# EAGLE library part IRF7309 (library CaliBeta-Transistores)
MOSFET dual canal N 30V,3.5A,50mOhms y canal P -30V,-2.8A,0.1Ohms
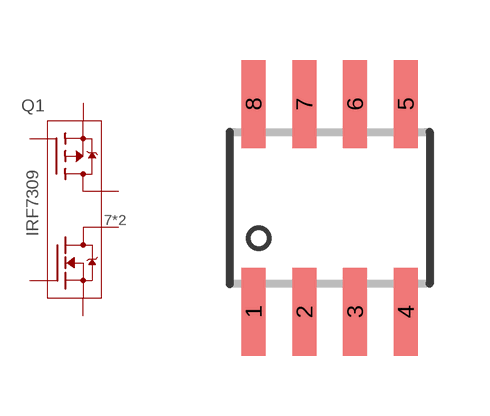
[diagram p3: symbol with the pads of SOIC-8; footprint SOIC-8]

Designator prefix Q1

## IRF7309  [SOIC-8]
1  S-N  pas
2  G-N  pas
3  S-P  pas
4  G-P  pas
5  D-P  pas
6  D-P  pas
7  D-N  pas
8  D-N  pas

## Footprint SOIC-8 (pad centres in mm)
smd 0.6 x 2.2: 1 -1.905,-2.6; 2 -0.635,-2.6; 3 0.635,-2.6; 4 1.905,-2.6; 5 1.905,2.6; 6 0.635,2.6; 7 -0.635,2.6; 8 -1.905,2.6